# EAGLE library part TL1963A-33DCQ (library Parts for D-DAQ)
SOT-223-6 Adjustable LDO
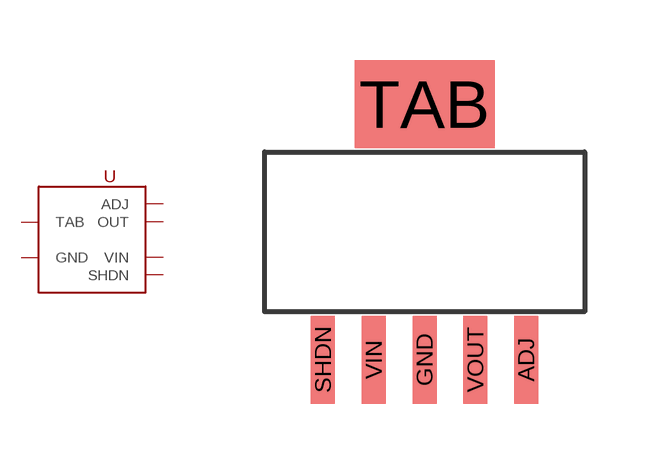
[diagram p17: symbol with the pads of SOT-223-6; footprint SOT-223-6]

Designator prefix -

## TL1963A-33DCQ  [SOT-223-6]
ADJ  ADJ  pas
GND  GND  pas
SHDN  SHDN  in
TAB  TAB  pas
VIN  VIN  in
VOUT  OUT  out

## Footprint SOT-223-6 (pad centres in mm)
smd 0.6 x 2.2: ADJ 2.54,-3.2; GND 0,-3.2; SHDN -2.54,-3.2; VIN -1.27,-3.2; VOUT 1.27,-3.2
smd 3.5 x 2.2: TAB 0,3.2